# Altium integrated library LINE-CHOKE-XS.IntLib: 1 symbol
Pins are listed as number, name and electrical type; pins without a type are passive.

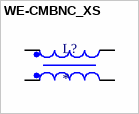
[diagram p0: symbol WE-CMBNC_XS]

## WE-CMBNC_XS
designator L?
Common Mode Choke WE-CMBNC 11mH 0.9A R43 ¦ Wurth Electronics 7448010911; MF: WÃ¼rth Elektronik; SnapEDA_Link: https://www.snapeda.com/parts/7448010911/W%25C3%25BCrth+Elektronik+Midcom/view-part/?ref=snap; Package: Vertical-4 Wurth Electronics; Value: *; MP: 7448010911; Check_prices: https://www.snapeda.com/parts/7448010911/W%25C3%25BCrth+Elektronik+Midcom/view-part/?ref=eda
footprint WE-CMBNC_XS_7448010911
pins: 1, 2, 3, 4